# EAGLE library part PTOP-18 (library matt con-amp)
AMP connector
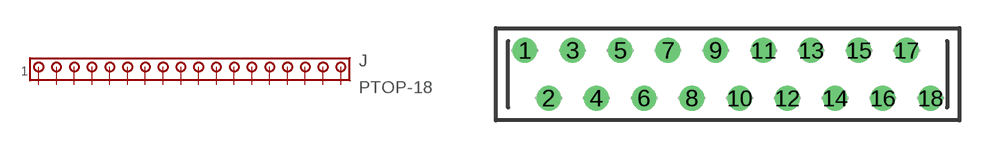
[diagram p166: symbol with the pads of PTOP-18; footprint PTOP-18]

Designator prefix J

## PTOP-18  [PTOP-18]
1  1  pas
2  2  pas
3  3  pas
4  4  pas
5  5  pas
6  6  pas
7  7  pas
8  8  pas
9  9  pas
10  10  pas
11  11  pas
12  12  pas
13  13  pas
14  14  pas
15  15  pas
16  16  pas
17  17  pas
18  18  pas

## Footprint PTOP-18 (pad centres in mm)
AMP connector
drill 0.813 round: 1 -10.795,1.27; 2 -9.525,-1.27; 3 -8.255,1.27; 4 -6.985,-1.27; 5 -5.715,1.27; 6 -4.445,-1.27; 7 -3.175,1.27; 8 -1.905,-1.27; 9 -0.635,1.27; 10 0.635,-1.27; 11 1.905,1.27; 12 3.175,-1.27; 13 4.445,1.27; 14 5.715,-1.27; 15 6.985,1.27; 16 8.255,-1.27; 17 9.525,1.27; 18 10.795,-1.27